# Altium footprint library DIP794W56P254L2000H533Q16N.PcbLib: 1 footprints
Each footprint in its own frame and in the unit in brackets; x right, y up, seen from the top. Pads: shape width x height; smd on the part's side, far side on the other; paste and mask are expansions set on the pad; w line width, h text height; cw(c..) or ccw(c..) is an arc to the next point about the centre after c.
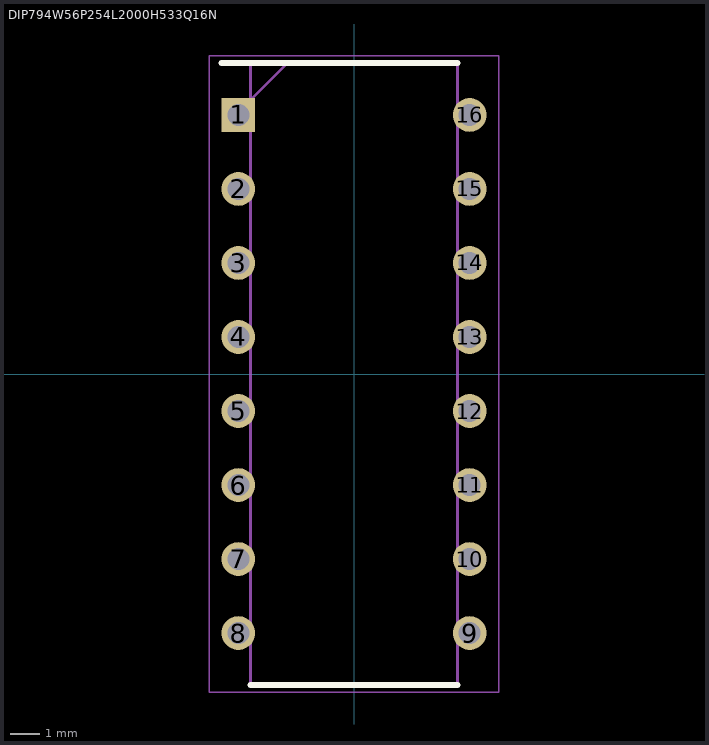
[diagram p0: the footprint, top view; thin cyan lines are the x and y axes]

## DIP794W56P254L2000H533Q16N [mm]
pads (16):
  rect 1.16x1.16 / inner round 1.16 / far side rect 1.16x1.16 hole 0.76: 1(-3.97,8.89)
  round 1.16 hole 0.76: 2(-3.97,6.35) 3(-3.97,3.81) 4(-3.97,1.27) 5(-3.97,-1.27) 6(-3.97,-3.81) 7(-3.97,-6.35) 8(-3.97,-8.89) 9(3.97,-8.89) 10(3.97,-6.35) 11(3.97,-3.81) 12(3.97,-1.27) 13(3.97,1.27) 14(3.97,3.81) 15(3.97,6.35) 16(3.97,8.89)
Top Overlay:
  lines w0.2: -4.55,10.67 3.555,10.67 ; -3.555,-10.67 3.555,-10.67
Mechanical 15:
  lines w0.1: -3.555,9.4 -2.285,10.67 ; -3.555,-10.67 3.555,-10.67 3.555,10.67 -3.555,10.67 -3.555,-10.67
Mechanical 20:
  lines w0.05: -4.96,-10.92 4.96,-10.92 4.96,10.92 -4.96,10.92 -4.96,-10.92
3D body "ISO124P.stp": height 5.8, standoff -4.65, extent -10,-3.376 10,3.376